# Altium schematic symbol library Cap_Film.SchLib: 3 symbols
Pins are listed as number, name and electrical type; pins without a type are passive.

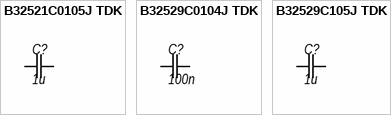
[diagram p0: symbols B32521C0105J TDK to B32529C105J TDK]

## B32521C0105J TDK
designator C?, comment 1u
Partnumber: B32521C0105J TDK
footprint B32521
pins: 1, 2

## B32529C0104J TDK
designator C?, comment 100n
конденсатор 0.1мкФ 5% 63Вdc; Partnumber: B32521C0105J TDK
footprint B32529C_2_5x6_5x7_3
pins: 1, 2

## B32529C105J TDK
designator C?, comment 1u
конденсатор 1мкФ 5% 63Вdc; Partnumber: B32521C0105J TDK
footprint B32529C_4_5x9_5x7_3
pins: 1, 2